# Altium footprint library SCHURTER_ILR.PcbLib: 1 footprints
Each footprint in its own frame and in the unit in brackets; x right, y up, seen from the top. Pads: shape width x height; smd on the part's side, far side on the other; paste and mask are expansions set on the pad; w line width, h text height; cw(c..) or ccw(c..) is an arc to the next point about the centre after c.
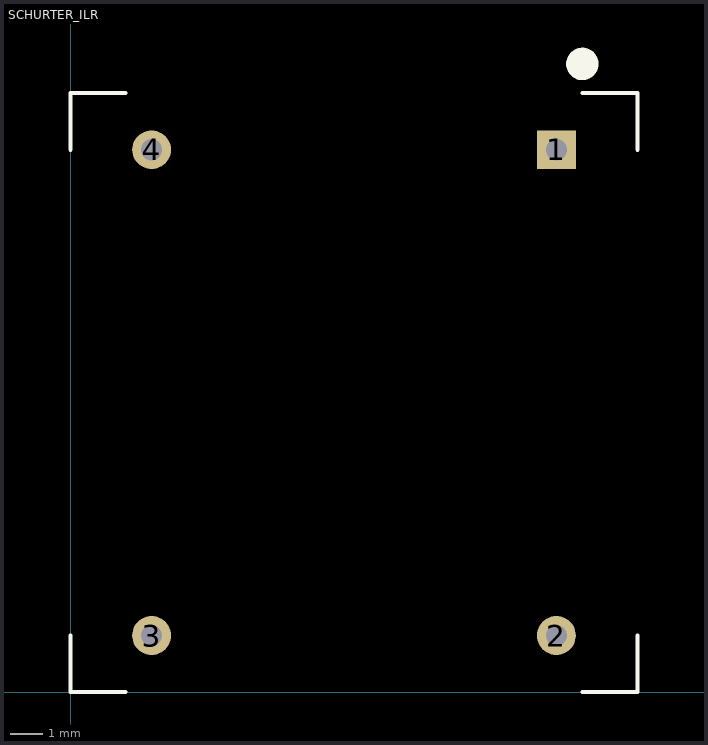
[diagram p0: the footprint, top view; thin cyan lines are the x and y axes]

## SCHURTER_ILR [mm] "Schurter ILR series Transformers"
pads (4):
  rect 1.2x1.2 hole 0.65: 1(15,16.75)
  round 1.2 hole 0.65: 2(15,1.75) 3(2.5,1.75) 4(2.5,16.75)
Top Overlay:
  circle w0.5: c15.8,19.4 r0.25
  lines w0.127: 0,1.75 0,0 1.7,0 ; 0,16.75 0,18.5 1.7,18.5 ; 15.8,0 17.5,0 17.5,1.75 ; 15.8,18.5 17.5,18.5 17.5,16.75
3D body: height 11.5, standoff 0, extent 0,0 17.5,18.5